# EAGLE library part RCLAMP0502A (library adjacent-reality)
The RailClamp® series consists of ultra low capacitance TVS arrays designed to protect high speed data interfaces.
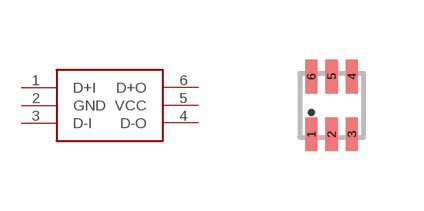
[diagram p7: symbol with the pads of SOT-666; footprint SOT-666]

Designator prefix -

## RCLAMP0502A  [SOT-666]
1  D+I
2  GND
3  D-I
4  D-O
5  VCC
6  D+O

## Footprint SOT-666 (pad centres in mm)
smd 0.305 x 0.838: 1 -0.508,-0.724; 2 0,-0.724; 3 0.508,-0.724; 4 0.508,0.724; 5 0,0.724; 6 -0.508,0.724